# EAGLE library part FT230X (library BaseApp)
Digikey No :- __768-1135-1-ND__
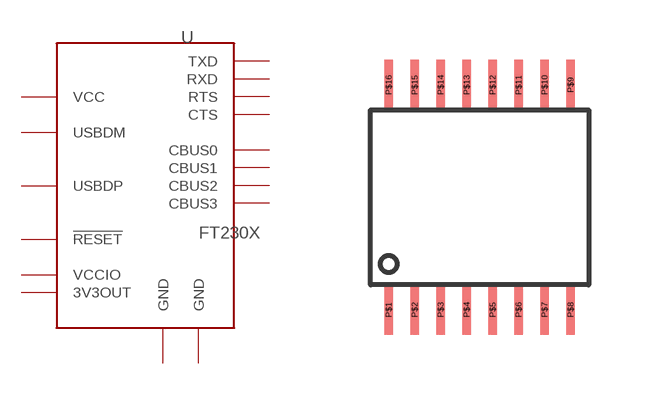
[diagram p43: symbol with the pads of 16PIN_SSOP; footprint 16PIN_SSOP]

Designator prefix -

## FT230X  [16PIN_SSOP]
P$1  TXD
P$2  RTS
P$3  VCCIO
P$4  RXD
P$5  GND
P$6  CTS
P$7  CBUS2
P$8  USBDP
P$9  USBDM
P$10  3V3OUT
P$11  !RESET
P$12  VCC
P$13  GND
P$14  CBUS1
P$15  CBUS0
P$16  CBUS3

## Footprint 16PIN_SSOP (pad centres in mm)
smd 0.22 x 1.25: P$1 -2.275,-2.6; P$2 -1.625,-2.6; P$3 -0.975,-2.6; P$4 -0.325,-2.6; P$5 0.325,-2.6; P$6 0.975,-2.6; P$7 1.625,-2.6; P$8 2.275,-2.6; P$9 2.275,3.02; P$10 1.625,3.02; P$11 0.975,3.02; P$12 0.325,3.02; P$13 -0.325,3.02; P$14 -0.975,3.02; P$15 -1.625,3.02; P$16 -2.275,3.02